# EAGLE library part LT1513 (library omcPwrSupply)
Linear Technology -LT1513 - Programmable-Current/Constant-Voltage Battery Charger Charger Input Voltage May Be Higher, Equal to or Lower Than Battery Voltage Charges Any Number of Cells Up to 20V 1% Voltage Accuracy for Rechargeable Lithium Batteries 100mV Current Sense Voltage for High Efficiency (LT1513) 0mV Current Sense Voltage for Easy Current Programming (LT1513-2) Battery Can Be Directly Grounded 500kHz Switching Frequency Minimizes Inductor Size Charging Current Easily Programmable or Shut Down Datasheet: Linear Technology <https://www.analog.com/media/en/technical-documentation/data-sheets/1513fas.pdf> Mouser <https://www.mouser.de/datasheet/2/609/1513fas-1270311.pdf>
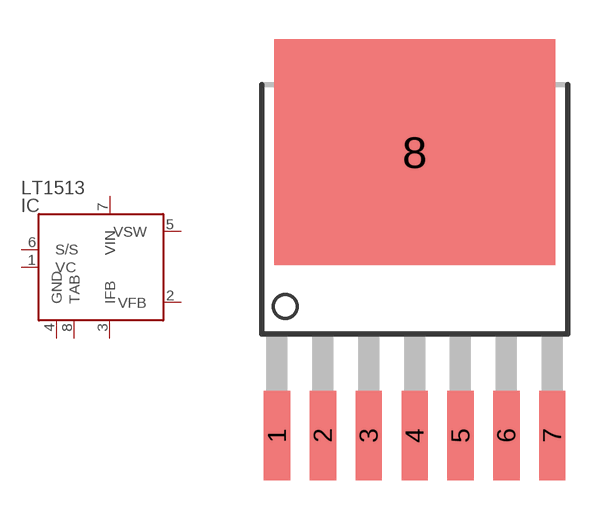
[diagram p7: symbol with the pads of TO263-7; footprint TO263-7]

Designator prefix IC

## LT1513CR (#VENDOR: Linear Technology, LT1513CR; DIST#MOUSER#: 584-LT1513CR#PBF; VALUE: LT1513)  [TO263-7]
1  VC  pas
2  VFB  pas
3  IFB  pas
4  GND  pwr
5  VSW  out
6  S/S  pas
7  VIN  in
8  TAB  pwr

## Footprint TO263-7 (pad centres in mm)
TO263 (7-Lead) D2PAK DDPAK KTT SMD 10.16mm×15.24mm Wikipedia <https://en.wikipedia.org/wiki/TO-263> Mechanical <http://focus.ti.com/download/aap/pdf/slyb130_KTT-DesignSummary.pdf>
smd 1 x 3.4: 1 -5.239,-8.255; 2 -3.493,-8.255; 3 -1.746,-8.255; 4 0,-8.255; 5 1.746,-8.255; 6 3.493,-8.255; 7 5.239,-8.255
smd 10.7 x 8.6: 8 0,2.54